# Altium schematic symbol library SP4065-08ATG.SchLib: 1 symbol
Pins are listed as number, name and electrical type; pins without a type are passive.

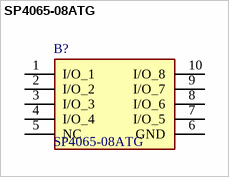
[diagram p0: symbol SP4065-08ATG]

## SP4065-08ATG
designator B?
LITTELFUSE - SP4065-08ATG - DIODE, ESD PROTECTION, 3.3V, MSOP; Geometry.Height: 1.1mm; Mouser Part Number: 576-SP4065-08ATG; Mouser Price/Stock: https://www.mouser.co.uk/ProductDetail/Littelfuse/SP4065-08ATG?qs=0Dbrz4iFQy%2FklE79eCp2zA%3D%3D; Manufacturer_Name: LITTELFUSE; Manufacturer_Part_Number: SP4065-08ATG; Datasheet Link: https://componentsearchengine.com/Datasheets/2/SP4065-08ATG.pdf
footprint SOP50P488X110-10N
pins: 1 I/O_1, 2 I/O_2, 3 I/O_3, 4 I/O_4, 5 NC, 6 GND, 7 I/O_5, 8 I/O_6, 9 I/O_7, 10 I/O_8